# Altium schematic symbol library SMW5R27JT.SchLib: 2 symbols
Pins are listed as number, name and electrical type; pins without a type are passive.

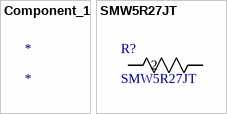
[diagram p0: symbols Component_1 to SMW5R27JT]

## Component_1
designator *

## SMW5R27JT
designator R?
No Description Available; Mfr_Name: TE Connectivity; Copyright: Copyright (C) 2021 Ultra Librarian. All rights reserved.; Manufacturer_Part_Number: SMW5R27JT; RefDes: RefDes; Type: DEV
footprint RES_SMF5_TYCO_TYC
pins: 1, 2